# Altium footprint library RICHTEK_PSOP-8.PcbLib: 1 footprints
Each footprint in its own frame and in the unit in brackets; x right, y up, seen from the top. Pads: shape width x height; smd on the part's side, far side on the other; paste and mask are expansions set on the pad; w line width, h text height; cw(c..) or ccw(c..) is an arc to the next point about the centre after c.
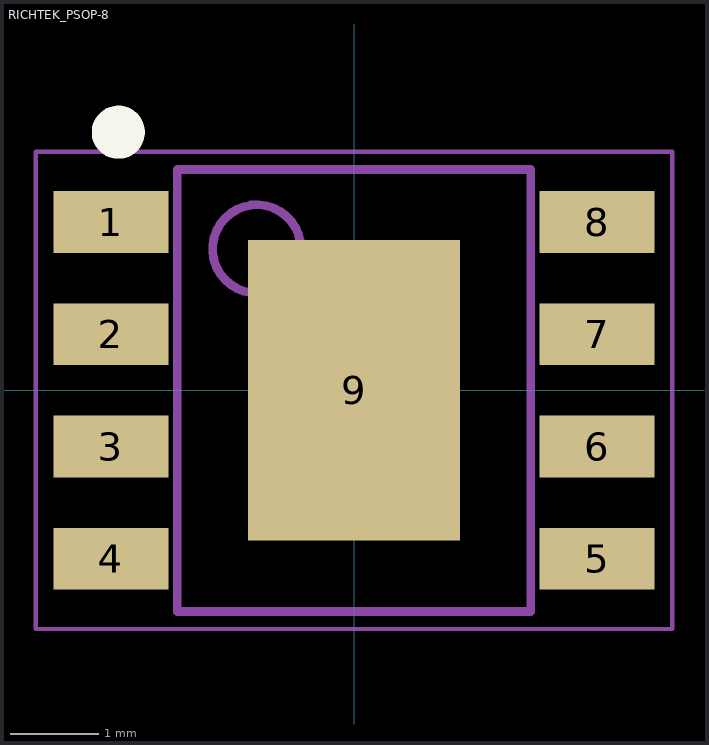
[diagram p0: the footprint, top view; thin cyan lines are the x and y axes]

## RICHTEK_PSOP-8 [mm] "RICHTEK_PSOP-8"
height 1.753
pads (9):
  rect 1.3x0.7 smd mask+0.05: 1(-2.75,1.905) 2(-2.75,0.635) 3(-2.75,-0.635) 4(-2.75,-1.905) 5(2.75,-1.905) 6(2.75,-0.635) 7(2.75,0.635) 8(2.75,1.905)
  rect 2.4x3.4 smd mask+0.05: 9(0,0)
Top Overlay:
  circle w0.3: c-2.667,2.921 r0.15
Top 3D Body:
  circle w0.1: c-1.1,1.6 r0.5
  lines w0.1: -2,-2.5 2,-2.5 2,2.5 -2,2.5 -2,-2.5
Top Courtyard (Mech15):
  lines w0.05: -0.5,0 0.5,0 ; 0,-0.5 0,0.5 ; -3.6,-2.7 -3.6,2.7 3.6,2.7 3.6,-2.7 -3.6,-2.7
3D body: height 1.75, standoff 0, extent -2,-2.5 2,2.5